# EAGLE library part LM4881 (library harrison)
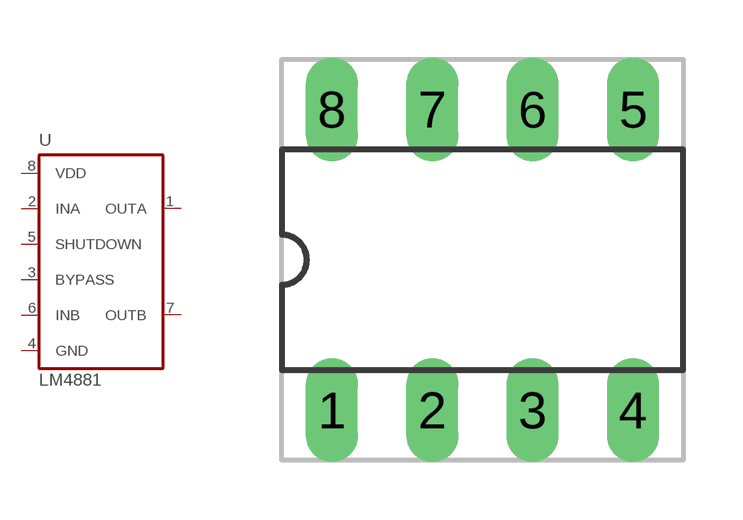
[diagram p30: symbol with the pads of DIL08; footprint DIL08]

Designator prefix U

## LM4881  [DIL08]
1  OUTA  out
2  INA  in
3  BYPASS  pas
4  GND  pwr
5  SHUTDOWN  in
6  INB  in
7  OUTB  out
8  VDD  pwr

## Footprint DIL08 (pad centres in mm)
drill 0.813 long: 1 -3.81,-3.81; 2 -1.27,-3.81; 3 1.27,-3.81; 4 3.81,-3.81; 5 3.81,3.81; 6 1.27,3.81; 7 -1.27,3.81; 8 -3.81,3.81